# Altium schematic symbol library AP62300TWU-7.SchLib: 1 symbol
Pins are listed as number, name and electrical type; pins without a type are passive.

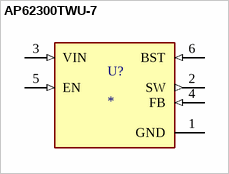
[diagram p0: symbol AP62300TWU-7]

## AP62300TWU-7
designator U?
MF: {'manufacturer': u'Diodes Incorporated'}; MP: AP62300TWU-7; Value: *; Package: None; Availability: Unavailable; Price: None
footprint SOT95P280X100-6N
pins: 1 GND (power), 2 SW (out), 3 VIN (in), 4 FB (in), 5 EN (in), 6 BST (in)